# Altium footprint library SIP_MHV12_Traco.PcbLib: 1 footprints
Each footprint in its own frame and in the unit in brackets; x right, y up, seen from the top. Pads: shape width x height; smd on the part's side, far side on the other; paste and mask are expansions set on the pad; w line width, h text height; cw(c..) or ccw(c..) is an arc to the next point about the centre after c.
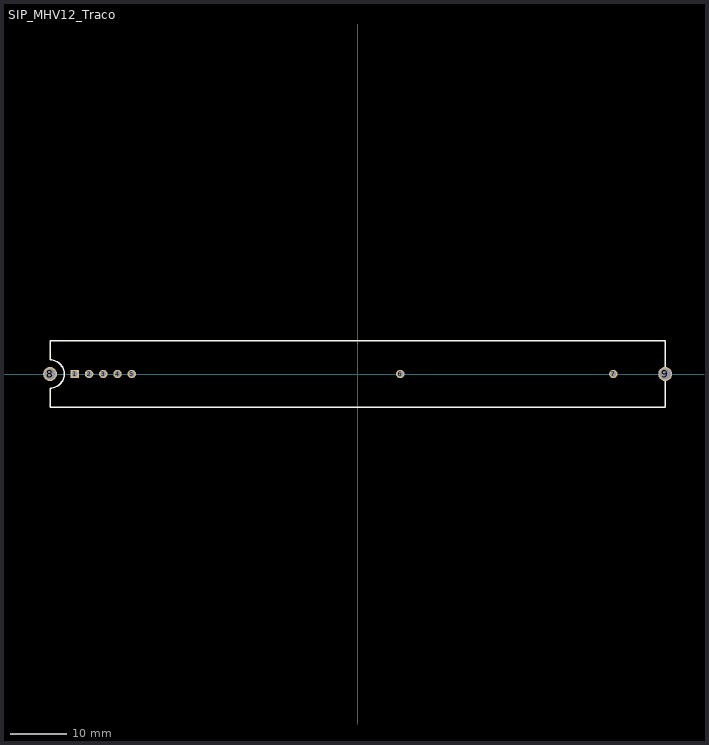
[diagram p0: the footprint, top view; thin cyan lines are the x and y axes]

## SIP_MHV12_Traco [mm]
height 19.812
pads (9):
  rect 1.5x1.5 hole 1: 1(-50.546,0)
  round 1.5 hole 1: 2(-48.006,0) 3(-45.466,0) 4(-42.926,0) 5(-40.386,0) 6(7.62,0) 7(45.72,0)
  round 2.5 hole 2: 8(-54.991,0) 9(54.991,0)
Top Overlay:
  lines w0.254: -54.991,-5.969 -54.991,-2.54 ccw(c-54.991,0) -54.991,2.54 -54.991,5.969 54.991,5.969 54.991,-5.969 -54.991,-5.969